# Altium schematic symbol library ADA4932.SCHLIB: 1 symbol
Pins are listed as number, name and electrical type; pins without a type are passive.

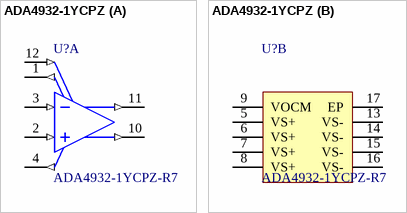
[diagram p0: symbol ADA4932-1YCPZ]

## ADA4932-1YCPZ
designator U?, comment ADA4932-1YCPZ-R7
Low Power Differential ADC Driver, 3 V to +/- 5 V, 9.6 mA per Amplifier, -40 to 105 degC, 16-Pin QFN (CP-16-2), RoHS, Reel; Manufacturer: Analog Devices; Slew Rate: 2800 V/us; Low Harmonic Distortion: 90 dB SFDR at 20 MHz; PackageDescription: 16-Pin Lead Frame Chip Scale Package, Body 3 x 3 mm, Pitch 0.5 mm; ComponentLink2URL: http://www.analog.com/static/imported-files/data_sheets/ADA4932-1_4932-2.pdf; Mounting Technology: Surface Mount; ComponentLink3URL: http://www.analog.com/static/imported-files/packages/PKG_PDF/LFCSP(CP)/CP_16_2.pdf; PackageVersion: Jan-05; Low Power: 9.6 mA per Amplifier; Packing: Reel; ComponentLink1Description: Manufacturer URL; RoHS: TRUE; Wide Supply Range: 3 V to +/- 5 V; ComponentLink2Description: Datasheet; PartNumber: ADA4932-1YCPZ-R7; PackageReference: CP-16-2; DatasheetVersion: Rev. C; Temperature Range: -40 to 105 degC; ComponentLink1URL: http://www.analog.com/; ComponentLink3Description: Package Specification; PartId: 1
footprint ADI-CP-16-2_L (QFN, 16-Leads, Body 3x3mm, Pitch 0.5mm, Thermal Pad 1.3x1.3mm, IPC High Density)
footprint ADI-CP-16-2_M (QFN, 16-Leads, Body 3x3mm, Pitch 0.5mm, Thermal Pad 1.3x1.3mm, IPC Low Density)
footprint ADI-CP-16-2_N (QFN, 16-Leads, Body 3x3mm, Pitch 0.5mm, Thermal Pad 1.3x1.3mm, IPC Medium Density)
part A pins: 1 FB- (out) "Negative Output for Feedback Component Connection.", 2 IN+ (in) "Positive Input Summing Node.", 3 IN- (in) "Negative Input Summing Node.", 4 FB+ (out) "Positive Output for Feedback Component Connection.", 10 OUT+ (out) "Positive Output for Load Connection.", 11 OUT- (out) "Negative Output for Load Connection.", 12 ~{PD} (in) "Power-Down Pin."
part B pins: 5 VS+ (power) "Positive Supply Voltage.", 6 VS+ (power) "Positive Supply Voltage.", 7 VS+ (power) "Positive Supply Voltage.", 8 VS+ (power) "Positive Supply Voltage.", 9 VOCM (power) "Output Common-Mode Voltage.", 13 VS- (power) "Negative Supply Voltage.", 14 VS- (power) "Negative Supply Voltage.", 15 VS- (power) "Negative Supply Voltage.", 16 VS- (power) "Negative Supply Voltage.", 17 EP (power) "Solder the exposed paddle on the back of the package to a ground plane or to a power plane."